# EAGLE library part TPS2375 (library mylib)
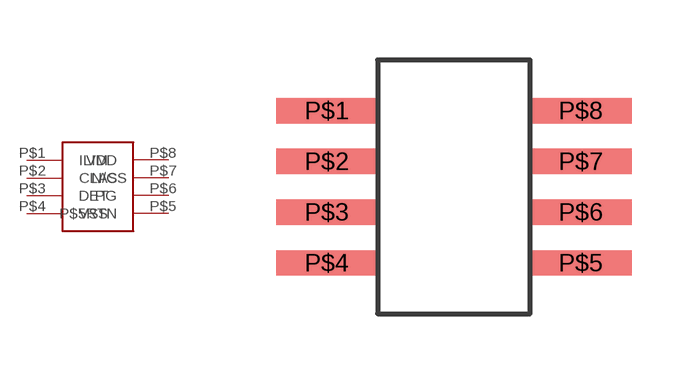
[diagram p5: symbol with the pads of TPS2375; footprint TPS2375]

Designator prefix -

## TPS2375  [TPS2375]
P$1  ILIM
P$2  CLASS
P$3  DET
P$4  VSS
P$5  P$5RTN
P$6  PG
P$7  N/C
P$8  VDD

## Footprint TPS2375 (pad centres in mm)
smd 2.54 x 0.635: P$1 -1.27,-1.27; P$2 -1.27,-2.54; P$3 -1.27,-3.81; P$4 -1.27,-5.08; P$5 5.08,-5.08; P$6 5.08,-3.81; P$7 5.08,-2.54; P$8 5.08,-1.27